# EAGLE library part MOUDLE-GSM-RF7198(36P-5.3X5.3MM) (library Seeed-OPL-Moudle)
317010002
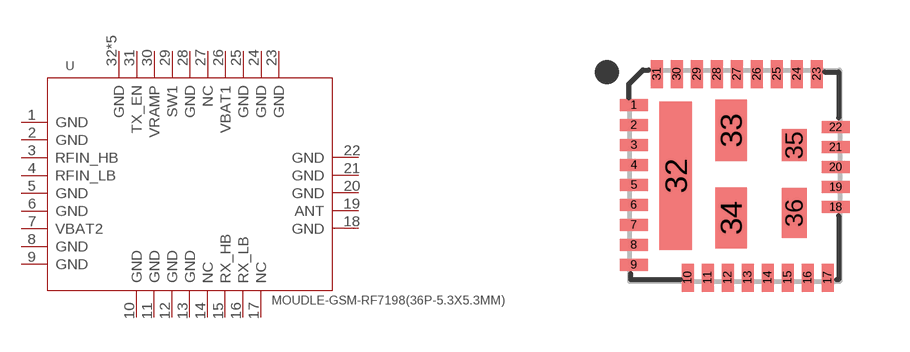
[diagram p16: symbol with the pads of GSM36-SMD-0.5-5.3X5.3X0.75MM; footprint GSM36-SMD-0.5-5.3X5.3X0.75MM]

Designator prefix U

## MOUDLE-GSM-RF7198(36P-5.3X5.3MM) (MPN: RF7198; VALUE: RF7198)  [GSM36-SMD-0.5-5.3X5.3X0.75MM]
1  GND
2  GND
3  RFIN_HB
4  RFIN_LB  pas
5  GND  pas
6  GND  pas
7  VBAT2  pas
8  GND  pas
9  GND  pas
10  GND  pas
11  GND  pas
12  GND  pas
13  GND  pas
14  NC  pas
15  RX_HB  pas
16  RX_LB  pas
17  NC  pas
18  GND  pas
19  ANT  pas
20  GND  pas
21  GND  pas
22  GND  pas
23  GND  pas
24  GND  pas
25  GND  pas
26  VBAT1  pas
27  NC  pas
28  GND  pas
29  SW1  pas
30  VRAMP  pas
31  TX_EN  pas
32  GND  pas
33  GND  pas
34  GND  pas
35  GND  pas
36  GND  pas

## Footprint GSM36-SMD-0.5-5.3X5.3X0.75MM (pad centres in mm)
smd 0.7 x 0.3: 1 -2.525,1.77; 2 -2.525,1.27; 3 -2.525,0.77; 4 -2.525,0.27; 5 -2.525,-0.23; 6 -2.525,-0.73; 7 -2.525,-1.23; 8 -2.525,-1.73; 9 -2.525,-2.23; 18 2.525,-0.785; 19 2.525,-0.285; 20 2.525,0.215; 21 2.525,0.715; 22 2.525,1.215
smd 0.3 x 0.7: 10 -1.175,-2.55; 11 -0.675,-2.55; 12 -0.175,-2.55; 13 0.325,-2.55; 14 0.825,-2.55; 15 1.325,-2.55; 16 1.825,-2.55; 17 2.325,-2.55; 23 2.055,2.55; 24 1.555,2.55; 25 1.055,2.55; 26 0.555,2.55; 27 0.055,2.55; 28 -0.445,2.55; 29 -0.945,2.55; 30 -1.445,2.55; 31 -1.945,2.55
smd 0.805 x 3.715: 32 -1.473,0
smd 0.785 x 1.535: 33 -0.083,1.133; 34 -0.083,-1.055
smd 0.635 x 0.8: 35 1.493,0.765
smd 0.635 x 1.245: 36 1.493,-0.933